# EAGLE library part 61202422121 (library Wire-to-Board (rev18a))
WR-BHD 2.54mm Male Angled Box Header With Lever, 24 Pins=>Code : Con_WTB_BHD_2.54_Male_THT_WS_61202422121 <http://katalog.we-online.de/media/thumbs2/eican/thb_Con_WTB_BHD_2.54_Male_THT_WS_6120xx22121_pf2.jpg> Details see: http://katalog.we-online.de/en/em/612_0xx_221_21 Created 2014-06-05, Karrer Zheng 2014 (C) Würth Elektronik
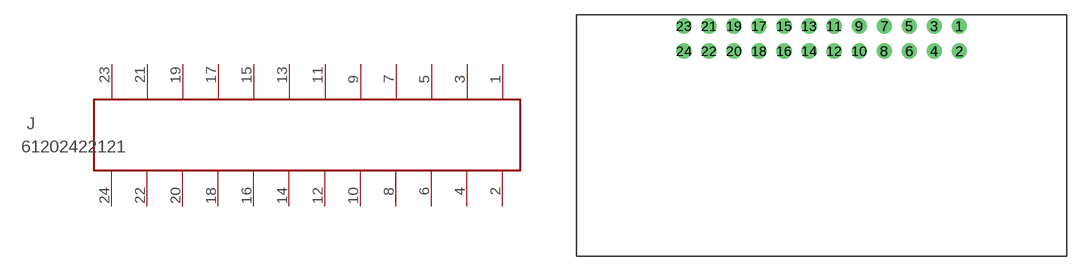
[diagram p161: symbol with the pads of 61202422121; footprint 61202422121]

Designator prefix J

## 61202422121  [61202422121]
1  24  pas
2  23  pas
3  22  pas
4  21  pas
5  20  pas
6  19  pas
7  18  pas
8  17  pas
9  16  pas
10  15  pas
11  14  pas
12  13  pas
13  12  pas
14  11  pas
15  10  pas
16  9  pas
17  8  pas
18  7  pas
19  6  pas
20  5  pas
21  4  pas
22  3  pas
23  2  pas
24  1  pas

## Footprint 61202422121 (pad centres in mm)
WR-BHD 2.54mm Male Angled Box Header With Lever, 24 Pins
drill 1.02: 1 13.97,1.27; 2 13.97,-1.27; 3 11.43,1.27; 4 11.43,-1.27; 5 8.89,1.27; 6 8.89,-1.27; 7 6.35,1.27; 8 6.35,-1.27; 9 3.81,1.27; 10 3.81,-1.27; 11 1.27,1.27; 12 1.27,-1.27; 13 -1.27,1.27; 14 -1.27,-1.27; 15 -3.81,1.27; 16 -3.81,-1.27; 17 -6.35,1.27; 18 -6.35,-1.27; 19 -8.89,1.27; 20 -8.89,-1.27; 21 -11.43,1.27; 22 -11.43,-1.27; 23 -13.97,1.27; 24 -13.97,-1.27